# Altium schematic symbol library CON-2mm.SchLib: 5 symbols
Pins are listed as number, name and electrical type; pins without a type are passive.

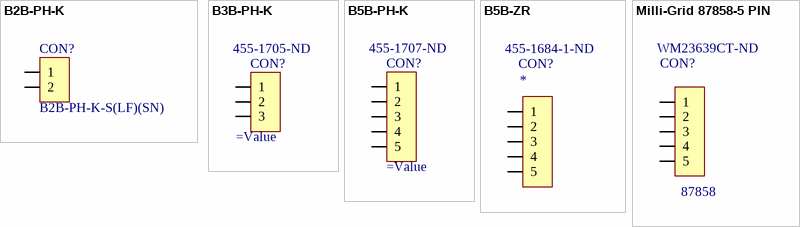
[diagram p0: symbols B2B-PH-K to Milli-Grid 87858-5 PIN]

## B2B-PH-K
designator CON?, comment B2B-PH-K-S(LF)(SN)
2 Posiciones, Cabecera protegida, Conector, 0.079" (2.00 mm), Orificio pasante, Estaño; Connector Type: Header, Shrouded; Number of Positions: 2; Number of Positions Loaded: All; Packaging: Bulk; Contact Type: Male Pin; Pitch: 0.079" (2.00mm); Number of Rows: 1; Row Spacing: -; Contact Mating Length: 0.130" (3.30mm); Mounting Type: Through Hole; Termination: Press-Fit, Solder; Fastening Type: Detent Lock; Features: -; Contact Finish: Tin; Contact Finish Thickness: -; Color: Natural; ComponentLink1URL: http://www.jst-mfg.com/product/pdf/eng/ePH.pdf; ComponentLink1Description: http://www.jst-mfg.com/product/pdf/eng/ePH.pdf; Supplier 1: Digi-Key; Supplier Part Number 1: 455-1704-ND; Value: B2B-PH-K-S(LF)(SN)
footprint B2B-PH-K-S
pins: 1, 2

## B3B-PH-K
designator CON?  Supplier Part Number 1: 455-1705-ND
Supplier 1: Digi-Key
footprint B3B-PH-K-S
pins: 1, 2, 3

## B5B-PH-K
designator CON?  Supplier Part Number 1: 455-1707-ND
Supplier 1: Digi-Key
footprint B5B-PH-K-S
pins: 1, 2, 3, 4, 5

## B5B-ZR
designator CON?  Supplier Part Number 1: 455-1684-1-ND
CONN HEADER SMD 5POS 1.5MM; Supplier 1: Digi-Key
footprint B5B-ZR (CONN HEADER VERT 5POS 1.5MM)
footprint B5B-ZR-RA (CONN HEADER SMD 5POS 1.5MM)
pins: 1, 2, 3, 4, 5

## Milli-Grid 87858-5 PIN
designator CON?, comment 87858  Supplier Part Number 1: WM23639CT-ND
Supplier 1: Digi-Key
footprint HEADER R/A 5 POS
pins: 1, 2, 3, 4, 5